# Altium footprint library PcbLibTP.PcbLib: 12 footprints
Each footprint in its own frame and in the unit in brackets; x right, y up, seen from the top. Pads: shape width x height; smd on the part's side, far side on the other; paste and mask are expansions set on the pad; w line width, h text height; cw(c..) or ccw(c..) is an arc to the next point about the centre after c.
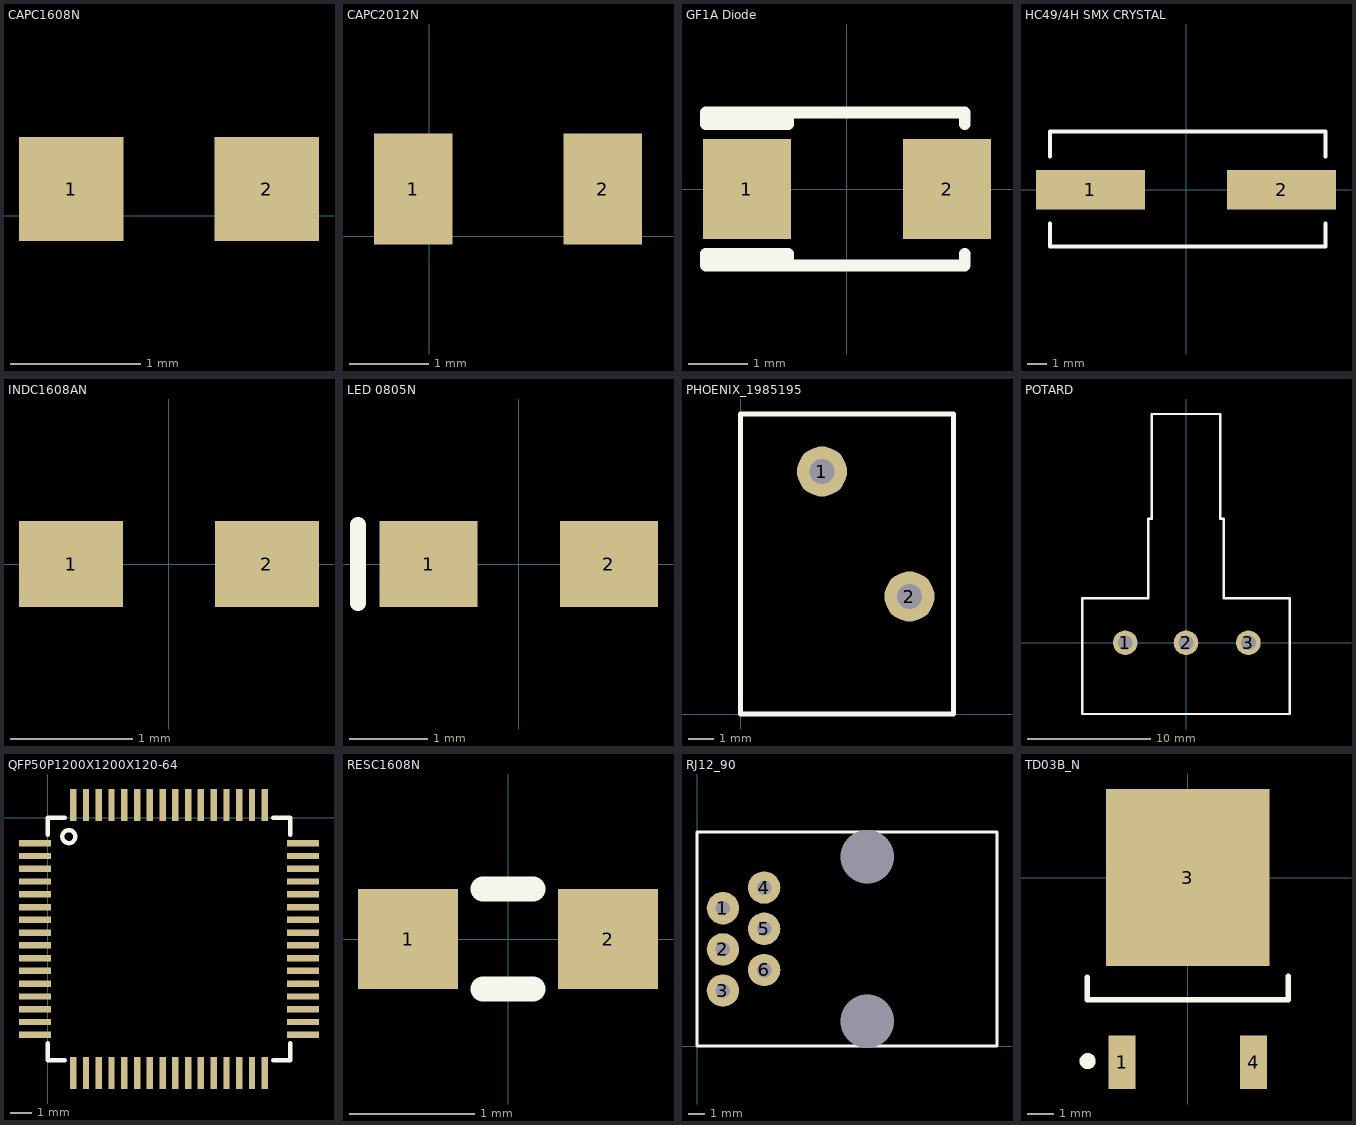
[diagram p0: the footprints below, top view; thin cyan lines are the x and y axes]

## CAPC1608N [mm]
pads (2):
  rect 0.8x0.8 smd: 1(0.838,0.203) 2(2.337,0.203)

## CAPC2012N [mm]
pads (2):
  rect 1x1.4 smd: 1(-0.2,0.6) 2(2.2,0.6)

## GF1A Diode [mm]
pads (2):
  rect 1.5x1.7 smd: 1(-1.7,0) 2(1.7,0)
Top Overlay:
  lines w0.2: -1,-1.3 -1,-1.1 -2.4,-1.1 -2.4,-1.3 2,-1.3 2,-1.1 ; -1,1.3 -1,1.1 -1.8,1.1 -2.4,1.1 -2.4,1.3 2,1.3 2,1.1 ; -0.8,1.3 -0.5,1.3

## HC49/4H SMX CRYSTAL [mm]
height 4.5
pads (2):
  rect 5.5x2 smd: 1(-4.826,0) 2(4.826,0)
Top Overlay:
  lines w0.2: -6.858,-1.7 -6.858,-2.86 7.042,-2.86 7.042,-1.7 ; -6.858,1.67 -6.858,2.94 7.042,2.94 7.042,1.67

## INDC1608AN [mm]
pads (2):
  rect 0.85x0.7 smd: 1(-0.8,0) 2(0.8,0)

## LED 0805N [mm]
pads (2):
  rect 1.25x1.1 smd: 1(-1.15,0) 2(1.15,0)
Top Overlay:
  lines w0.2: -2.05,-0.5 -2.05,0.5

## PHOENIX_1985195 [mm]
pads (2):
  round 2 hole 1: 1(3.25,9.7) 2(6.75,4.7)
Top Overlay:
  lines w0.2: 0,0 0,12 8.5,12 8.5,0 0,0

## POTARD [mm]
pads (3):
  round 2 hole 1.2: 1(-4.953,0) 2(0,0) 3(5.08,0)
Top Overlay:
  lines w0.2: 2.794,10.109 2.794,18.618 -2.794,18.618 -2.794,10.109 -3.048,10.109 -3.064,10.093 -3.064,3.632 -8.445,3.632 -8.445,-5.8 8.445,-5.8 8.445,3.632 3.064,3.632 3.064,10.093 2.81,10.093

## QFP50P1200X1200X120-64 [mm]
pads (64):
  rect 1.5x0.3 smd mask+0.102: 1(-0.6,-1.2) 2(-0.6,-1.8) 3(-0.6,-2.4) 4(-0.6,-3) 5(-0.6,-3.6) 6(-0.6,-4.2) 7(-0.6,-4.8) 8(-0.6,-5.4) 9(-0.6,-6) 10(-0.6,-6.6) 11(-0.6,-7.2) 12(-0.6,-7.8) 13(-0.6,-8.4) 14(-0.6,-9) 15(-0.6,-9.6) 16(-0.6,-10.2) 33(12,-10.2) 34(12,-9.6) 35(12,-9) 36(12,-8.4) 37(12,-7.8) 38(12,-7.2) 39(12,-6.6) 40(12,-6) 41(12,-5.4) 42(12,-4.8) 43(12,-4.2) 44(12,-3.6) 45(12,-3) 46(12,-2.4) 47(12,-1.8) 48(12,-1.2)
  rect 0.3x1.5 smd mask+0.102: 17(1.2,-12) 18(1.8,-12) 19(2.4,-12) 20(3,-12) 21(3.6,-12) 22(4.2,-12) 23(4.8,-12) 24(5.4,-12) 25(6,-12) 26(6.6,-12) 27(7.2,-12) 28(7.8,-12) 29(8.4,-12) 30(9,-12) 31(9.6,-12) 32(10.2,-12) 49(10.2,0.6) 50(9.6,0.6) 51(9,0.6) 52(8.4,0.6) 53(7.8,0.6) 54(7.2,0.6) 55(6.6,0.6) 56(6,0.6) 57(5.4,0.6) 58(4.8,0.6) 59(4.2,0.6) 60(3.6,0.6) 61(3,0.6) 62(2.4,0.6) 63(1.8,0.6) 64(1.2,0.6)
Top Overlay:
  circle w0.2: c0.991,-0.889 r0.306
  lines w0.2: 0,-10.6 0,-11.4 0.8,-11.4 ; 0,-0.8 0,0 0.8,0 ; 10.6,-11.4 11.4,-11.4 11.4,-10.6 ; 10.6,0 11.4,0 11.4,-0.8

## RESC1608N [mm]
pads (2):
  rect 0.8x0.8 smd: 1(-0.8,0) 2(0.8,0)
Top Overlay:
  lines w0.2: -0.2,-0.4 0.2,-0.4 ; -0.2,0.4 0.2,0.4

## RJ12_90 [mm]
pads (8):
  round 2 hole 0.9 mask+0.102: 1(1.6,8.5) 2(1.6,5.96) 3(1.6,3.42) 4(4.14,9.77) 5(4.14,7.23) 6(4.14,4.69)
  round 0 hole 3.3: 7(10.5,1.52) 7(10.5,11.68)
Top Overlay:
  lines w0.2: 0,0 18.5,0 18.5,13.2 0,13.2 0,0

## TD03B_N [mm]
pads (3):
  rect 1x2 smd mask+0.102: 1(-2.45,-6.886) 4(2.45,-6.886)
  rect 6.1x6.6 smd mask+0.102: 3(0,0)
Top Overlay:
  circle w0.3: c-3.734,-6.849 r0.15
  lines w0.2: -3.75,-3.708 -3.75,-4.563 3.75,-4.563 3.75,-3.683